# Altium schematic symbol library KSS221GLFS.SchLib: 2 symbols
Pins are listed as number, name and electrical type; pins without a type are passive.

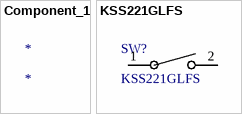
[diagram p0: symbols Component_1 to KSS221GLFS]

## Component_1
designator *

## KSS221GLFS
designator SW?
No Description Available; Mfr_Name: C&K; Copyright: Copyright (C) 2022 Ultra Librarian. All rights reserved.; Manufacturer_Part_Number: KSS221GLFS; RefDes: RefDes; Type: DEV
footprint SW_KSS221GLFS_CNK
pins: 1, 2